# EAGLE library part ISO7242 (library WarthogRobotics-IC-Special_Function)
High-Speed, Quad-Channel Digital Isolators
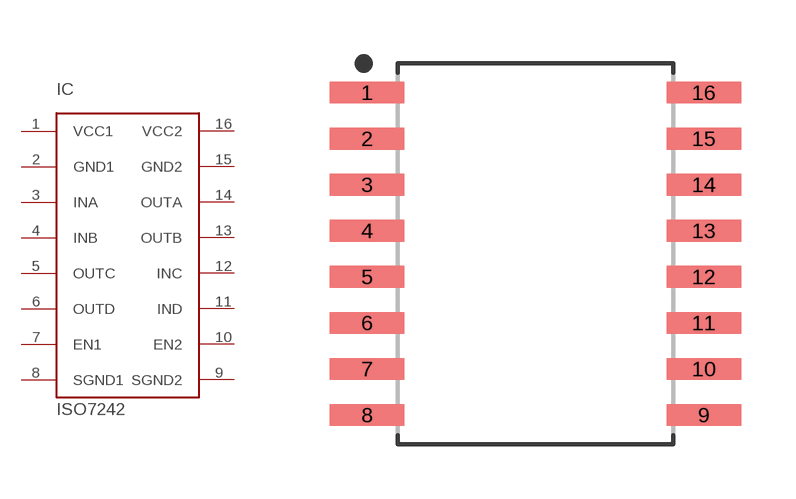
[diagram p6: symbol with the pads of SOIC16(N); footprint SOIC16(N)]

Designator prefix IC

## ISO7242  [SOIC16(N)]
1  VCC1
2  GND1
3  INA
4  INB
5  OUTC
6  OUTD
7  EN1
8  SGND1
9  SGND2
10  EN2
11  IND
12  INC
13  OUTB
14  OUTA
15  GND2
16  VCC2

## Footprint SOIC16(N) (pad centres in mm)
16-SOIC, 1.27 mm pitch, 10.30 mm span, 10.30 X 7.50 X 2.65 mm body 16-pin SOIC package with 1.27 mm pitch, 10.30 mm span with body size 10.30 X 7.50 X 2.65 mm
smd 2.056 x 0.599: 1 -4.642,4.445; 2 -4.642,3.175; 3 -4.642,1.905; 4 -4.642,0.635; 5 -4.642,-0.635; 6 -4.642,-1.905; 7 -4.642,-3.175; 8 -4.642,-4.445; 9 4.642,-4.445; 10 4.642,-3.175; 11 4.642,-1.905; 12 4.642,-0.635; 13 4.642,0.635; 14 4.642,1.905; 15 4.642,3.175; 16 4.642,4.445